# EAGLE library part CC2540F256 (library IC)
2.4GHz Bluetooth low energy System-on-Chip
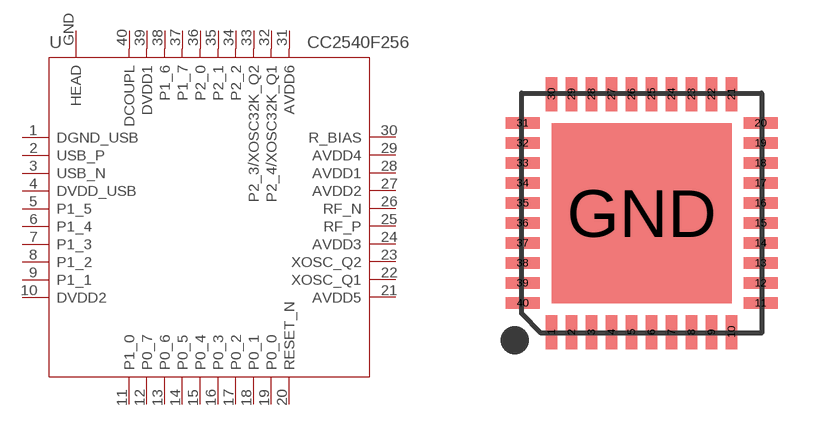
[diagram p186: symbol with the pads of QFN40; footprint QFN40]

Designator prefix U

## CC2540F256  [QFN40]
1  DGND_USB  sup
2  USB_P
3  USB_N
4  DVDD_USB  sup
5  P1_5
6  P1_4
7  P1_3
8  P1_2
9  P1_1
10  DVDD2  sup
11  P1_0
12  P0_7
13  P0_6
14  P0_5
15  P0_4
16  P0_3
17  P0_2
18  P0_1
19  P0_0
20  RESET_N  in
21  AVDD5  sup
22  XOSC_Q1
23  XOSC_Q2
24  AVDD3  sup
25  RF_P
26  RF_N
27  AVDD2  sup
28  AVDD1  sup
29  AVDD4  sup
30  R_BIAS
31  AVDD6  sup
32  P2_4/XOSC32K_Q1
33  P2_3/XOSC32K_Q2
34  P2_2
35  P2_1
36  P2_0
37  P1_7
38  P1_6
39  DVDD1  sup
40  DCOUPL
GND  HEAD

## Footprint QFN40 (pad centres in mm)
smd 0.28 x 0.85: 1 -2.25,-2.975; 2 -1.75,-2.975; 3 -1.25,-2.975; 4 -0.75,-2.975; 5 -0.25,-2.975; 6 0.25,-2.975; 7 0.75,-2.975; 8 1.25,-2.975; 9 1.75,-2.975; 10 2.25,-2.975; 21 2.25,2.975; 22 1.75,2.975; 23 1.25,2.975; 24 0.75,2.975; 25 0.25,2.975; 26 -0.25,2.975; 27 -0.75,2.975; 28 -1.25,2.975; 29 -1.75,2.975; 30 -2.25,2.975
smd 0.85 x 0.28: 11 2.975,-2.25; 12 2.975,-1.75; 13 2.975,-1.25; 14 2.975,-0.75; 15 2.975,-0.25; 16 2.975,0.25; 17 2.975,0.75; 18 2.975,1.25; 19 2.975,1.75; 20 2.975,2.25; 31 -2.975,2.25; 32 -2.975,1.75; 33 -2.975,1.25; 34 -2.975,0.75; 35 -2.975,0.25; 36 -2.975,-0.25; 37 -2.975,-0.75; 38 -2.975,-1.25; 39 -2.975,-1.75; 40 -2.975,-2.25
smd 4.5 x 4.5: GND 0,0